# EAGLE library part LM339 (library kmod-ics)
Low Power Low Offset Voltage Quad Comparators with open collector; LM139/LM239/LM339/LM2901/LM3302
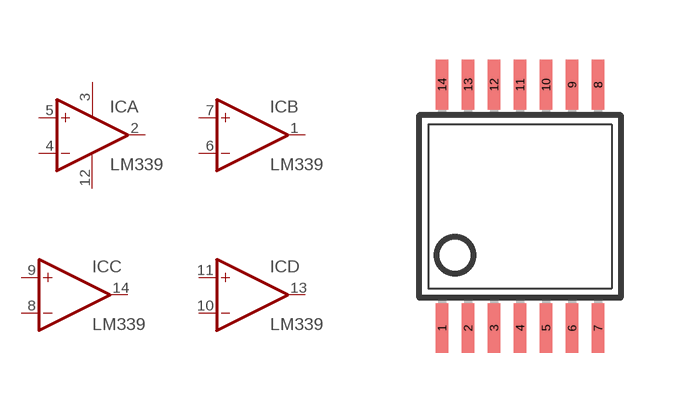
[diagram p7: symbol with the pads of TSSOP14; footprint TSSOP14]

Designator prefix IC; gates P=PWR+G A=COMPARATOR-OC B=COMPARATOR-OC C=COMPARATOR-OC D=COMPARATOR-OC

## LM339  [TSSOP14]
1  B:OUT  oc
2  A:OUT  oc
3  P:V+  pwr
4  A:-IN  in
5  A:+IN  in
6  B:-IN  in
7  B:+IN  in
8  C:-IN  in
9  C:+IN  in
10  D:-IN  in
11  D:+IN  in
12  P:GND  pwr
13  D:OUT  oc
14  C:OUT  oc

## Footprint TSSOP14 (pad centres in mm)
Thin Shrink Small Outline Plastic 14, 4.40mm width Forget where I copied from, but seems to work well. Could maybe make pads longer for easier hand-soldering. - ok made them longer by 10mil (0.25mm); they now stick past the end by about 0.5mm
smd 0.305 x 1.245: 1 -1.95,-3.045; 2 -1.3,-3.045; 3 -0.65,-3.045; 4 0,-3.045; 5 0.65,-3.045; 6 1.3,-3.045; 7 1.95,-3.045; 8 1.95,3.045; 9 1.3,3.045; 10 0.65,3.045; 11 0,3.045; 12 -0.65,3.045; 13 -1.3,3.045; 14 -1.95,3.045